# Altium footprint library UJ20CHGMSMTR4CP16TR.PcbLib: 1 footprints
Each footprint in its own frame and in the unit in brackets; x right, y up, seen from the top. Pads: shape width x height; smd on the part's side, far side on the other; paste and mask are expansions set on the pad; w line width, h text height; cw(c..) or ccw(c..) is an arc to the next point about the centre after c.
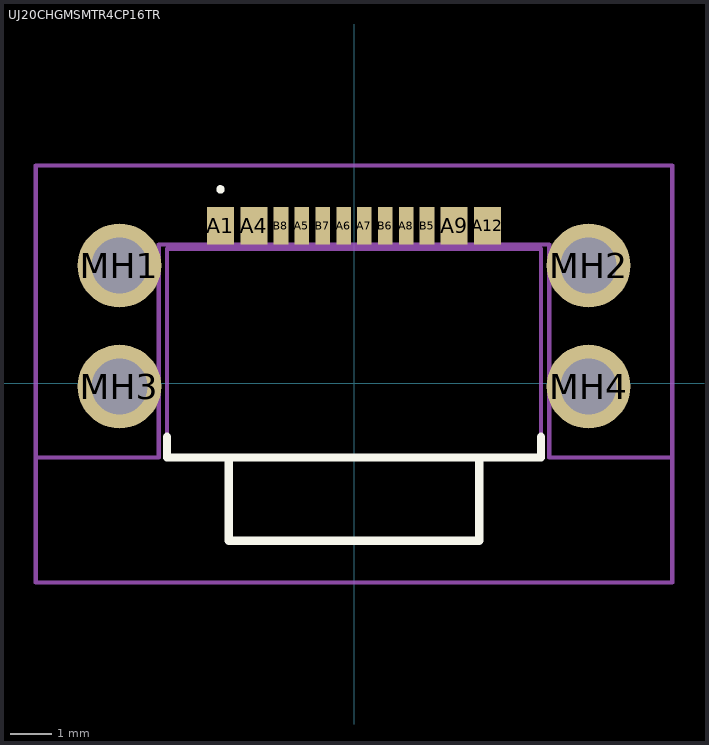
[diagram p0: the footprint, top view; thin cyan lines are the x and y axes]

## UJ20CHGMSMTR4CP16TR [mm]
pads (16):
  rect 0.65x0.9 smd: A1(-3.2,3.775) A4(-2.4,3.775) A9(2.4,3.775) A12(3.2,3.775)
  rect 0.35x0.9 smd: A5(-1.25,3.775) A6(-0.25,3.775) A7(0.25,3.775) A8(1.25,3.775) B5(1.75,3.775) B6(0.75,3.775) B7(-0.75,3.775) B8(-1.75,3.775)
  round 2.01 hole 1.34: MH1(-5.62,2.825) MH2(5.62,2.825) MH3(-5.62,-0.075) MH4(5.62,-0.075)
Top Overlay:
  lines w0.1: -3.2,4.6 cw(c-3.2,4.65) -3.2,4.7 ; -3.2,4.6 -3.2,4.6 ; -3.2,4.6 ccw(c-3.2,4.65) -3.2,4.7 ; -3.2,4.7 -3.2,4.7
  lines w0.2: -4.48,-1.275 -4.48,-1.775 4.48,-1.775 4.48,-1.275 ; -3,-1.775 -3,-3.775 3,-3.775 3,-1.775
Mechanical 15:
  lines w0.1: -3,-1.775 -3,-3.775 3,-3.775 3,-1.775 ; -4.48,-1.775 4.48,-1.775 4.48,3.225 -4.48,3.225 -4.48,-1.775
Mechanical 20:
  lines w0.1: -7.625,-4.775 7.625,-4.775 7.625,5.225 -7.625,5.225 -7.625,-4.775
Mechanical 21:
  lines w0.1: -7.625,-1.775 -4.68,-1.775 -4.68,3.325 0,3.325 4.68,3.325 4.68,-1.775 7.625,-1.775 7.625,5.225 -7.625,5.225 -7.625,-1.775